# Altium footprint library TFBGA.PcbLib: 2 footprints
Each footprint in its own frame and in the unit in brackets; x right, y up, seen from the top. Pads: shape width x height; smd on the part's side, far side on the other; paste and mask are expansions set on the pad; w line width, h text height; cw(c..) or ccw(c..) is an arc to the next point about the centre after c.
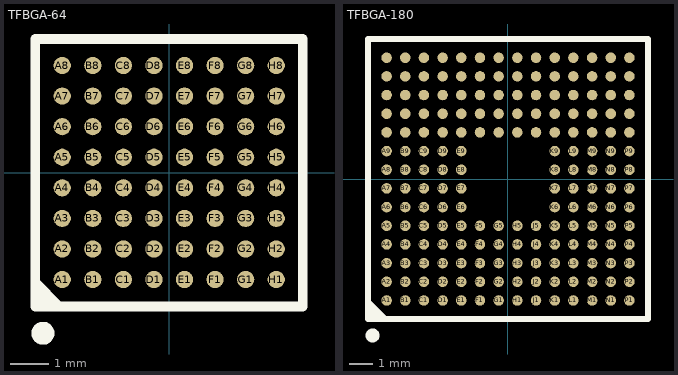
[diagram p0: the footprints below, top view; thin cyan lines are the x and y axes]

## TFBGA-64 [mm]
pads (64):
  round 0.45 smd mask+0.051: A1(-2.8,-2.8) A2(-2.8,-2) A3(-2.8,-1.2) A4(-2.8,-0.4) A5(-2.8,0.4) A6(-2.8,1.2) A7(-2.8,2) A8(-2.8,2.8) B1(-2,-2.8) B2(-2,-2) B3(-2,-1.2) B4(-2,-0.4) B5(-2,0.4) B6(-2,1.2) B7(-2,2) B8(-2,2.8) C1(-1.2,-2.8) C2(-1.2,-2) C3(-1.2,-1.2) C4(-1.2,-0.4) C5(-1.2,0.4) C6(-1.2,1.2) C7(-1.2,2) C8(-1.2,2.8) D1(-0.4,-2.8) D2(-0.4,-2) D3(-0.4,-1.2) D4(-0.4,-0.4) D5(-0.4,0.4) D6(-0.4,1.2) D7(-0.4,2) D8(-0.4,2.8) E1(0.4,-2.8) E2(0.4,-2) E3(0.4,-1.2) E4(0.4,-0.4) E5(0.4,0.4) E6(0.4,1.2) E7(0.4,2) E8(0.4,2.8) F1(1.2,-2.8) F2(1.2,-2) F3(1.2,-1.2) F4(1.2,-0.4) F5(1.2,0.4) F6(1.2,1.2) F7(1.2,2) F8(1.2,2.8) G1(2,-2.8) G2(2,-2) G3(2,-1.2) G4(2,-0.4) G5(2,0.4) G6(2,1.2) G7(2,2) G8(2,2.8) H1(2.8,-2.8) H2(2.8,-2) H3(2.8,-1.2) H4(2.8,-0.4) H5(2.8,0.4) H6(2.8,1.2) H7(2.8,2) H8(2.8,2.8)
Top Overlay:
  circle w0.3: c-3.306,-4.206 r0.15
  region: -3.456,-2.756 -2.756,-3.456 -3.456,-3.456
  lines w0.254: -3.506,-3.506 3.494,-3.506 3.494,3.494 -3.506,3.494 -3.506,-3.506

## TFBGA-180 [mm]
pads (180):
  round 0.45 smd mask+0.051: A1(-5.2,-5.2) A2(-5.2,-4.4) A3(-5.2,-3.6) A4(-5.2,-2.8) A5(-5.2,-2) A6(-5.2,-1.2) A7(-5.2,-0.4) A8(-5.2,0.4) A9(-5.2,1.2) A10(-5.2,2) A11(-5.2,2.8) A12(-5.2,3.6) A13(-5.2,4.4) A14(-5.2,5.2) B1(-4.4,-5.2) B2(-4.4,-4.4) B3(-4.4,-3.6) B4(-4.4,-2.8) B5(-4.4,-2) B6(-4.4,-1.2) B7(-4.4,-0.4) B8(-4.4,0.4) B9(-4.4,1.2) B10(-4.4,2) B11(-4.4,2.8) B12(-4.4,3.6) B13(-4.4,4.4) B14(-4.4,5.2) C1(-3.6,-5.2) C2(-3.6,-4.4) C3(-3.6,-3.6) C4(-3.6,-2.8) C5(-3.6,-2) C6(-3.6,-1.2) C7(-3.6,-0.4) C8(-3.6,0.4) C9(-3.6,1.2) C10(-3.6,2) C11(-3.6,2.8) C12(-3.6,3.6) C13(-3.6,4.4) C14(-3.6,5.2) D1(-2.8,-5.2) D2(-2.8,-4.4) D3(-2.8,-3.6) D4(-2.8,-2.8) D5(-2.8,-2) D6(-2.8,-1.2) D7(-2.8,-0.4) D8(-2.8,0.4) D9(-2.8,1.2) D10(-2.8,2) D11(-2.8,2.8) D12(-2.8,3.6) D13(-2.8,4.4) D14(-2.8,5.2) E1(-2,-5.2) E2(-2,-4.4) E3(-2,-3.6) E4(-2,-2.8) E5(-2,-2) E6(-2,-1.2) E7(-2,-0.4) E8(-2,0.4) E9(-2,1.2) E10(-2,2) E11(-2,2.8) E12(-2,3.6) E13(-2,4.4) E14(-2,5.2) F1(-1.2,-5.2) F2(-1.2,-4.4) F3(-1.2,-3.6) F4(-1.2,-2.8) F5(-1.2,-2) F10(-1.2,2) F11(-1.2,2.8) F12(-1.2,3.6) F13(-1.2,4.4) F14(-1.2,5.2) G1(-0.4,-5.2) G2(-0.4,-4.4) G3(-0.4,-3.6) G4(-0.4,-2.8) G5(-0.4,-2) G10(-0.4,2) G11(-0.4,2.8) G12(-0.4,3.6) G13(-0.4,4.4) G14(-0.4,5.2) H1(0.4,-5.2) H2(0.4,-4.4) H3(0.4,-3.6) H4(0.4,-2.8) H5(0.4,-2) H10(0.4,2) H11(0.4,2.8) H12(0.4,3.6) H13(0.4,4.4) H14(0.4,5.2) J1(1.2,-5.2) J2(1.2,-4.4) J3(1.2,-3.6) J4(1.2,-2.8) J5(1.2,-2) J10(1.2,2) J11(1.2,2.8) J12(1.2,3.6) J13(1.2,4.4) J14(1.2,5.2) K1(2,-5.2) K2(2,-4.4) K3(2,-3.6) K4(2,-2.8) K5(2,-2) K6(2,-1.2) K7(2,-0.4) K8(2,0.4) K9(2,1.2) K10(2,2) K11(2,2.8) K12(2,3.6) K13(2,4.4) K14(2,5.2) L1(2.8,-5.2) L2(2.8,-4.4) L3(2.8,-3.6) L4(2.8,-2.8) L5(2.8,-2) L6(2.8,-1.2) L7(2.8,-0.4) L8(2.8,0.4) L9(2.8,1.2) L10(2.8,2) L11(2.8,2.8) L12(2.8,3.6) L13(2.8,4.4) L14(2.8,5.2) M1(3.6,-5.2) M2(3.6,-4.4) M3(3.6,-3.6) M4(3.6,-2.8) M5(3.6,-2) M6(3.6,-1.2) M7(3.6,-0.4) M8(3.6,0.4) M9(3.6,1.2) M10(3.6,2) M11(3.6,2.8) M12(3.6,3.6) M13(3.6,4.4) M14(3.6,5.2) N1(4.4,-5.2) N2(4.4,-4.4) N3(4.4,-3.6) N4(4.4,-2.8) N5(4.4,-2) N6(4.4,-1.2) N7(4.4,-0.4) N8(4.4,0.4) N9(4.4,1.2) N10(4.4,2) N11(4.4,2.8) N12(4.4,3.6) N13(4.4,4.4) N14(4.4,5.2) P1(5.2,-5.2) P2(5.2,-4.4) P3(5.2,-3.6) P4(5.2,-2.8) P5(5.2,-2) P6(5.2,-1.2) P7(5.2,-0.4) P8(5.2,0.4) P9(5.2,1.2) P10(5.2,2) P11(5.2,2.8) P12(5.2,3.6) P13(5.2,4.4) P14(5.2,5.2)
Top Overlay:
  circle w0.3: c-5.8,-6.7 r0.15
  region: -5.95,-5.15 -5.15,-5.95 -5.95,-5.95
  lines w0.254: -6,-6 6,-6 6,6 -6,6 -6,-6